# EAGLE library part USB-A-DUAL (library Connector)
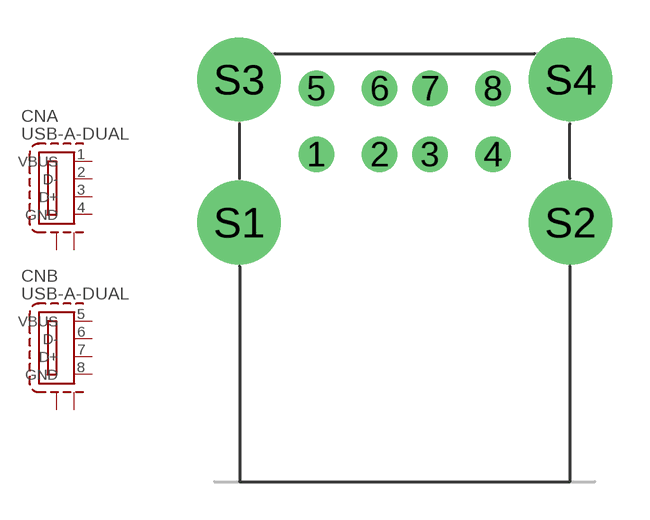
[diagram p2: symbol with the pads of USB-A-DUAL; footprint USB-A-DUAL]

Designator prefix CN; gates A=USB-A B=USB-A

## USB-A-DUAL  [USB-A-DUAL]
1  A:VBUS  pas
2  A:D-  pas
3  A:D+  pas
4  A:GND  pas
5  B:VBUS  pas
6  B:D-  pas
7  B:D+  pas
8  B:GND  pas
S1  A:S1  pas
S2  A:S2  pas
S3  B:S1  pas
S4  B:S2  pas

## Footprint USB-A-DUAL (pad centres in mm)
drill 0.9: 1 -3.5,0; 2 -1,0; 3 1,0; 4 3.5,0; 5 -3.5,2.62; 6 -1,2.62; 7 1,2.62; 8 3.5,2.62
drill 2.3 pad 3.1: S1 -6.57,-2.71; S2 6.57,-2.71; S3 -6.57,2.97; S4 6.57,2.97